# Altium integrated library Analog Devices Data Converters Digital-to-Analog Converters.IntLib: 2231 symbols (part 58 of 181)
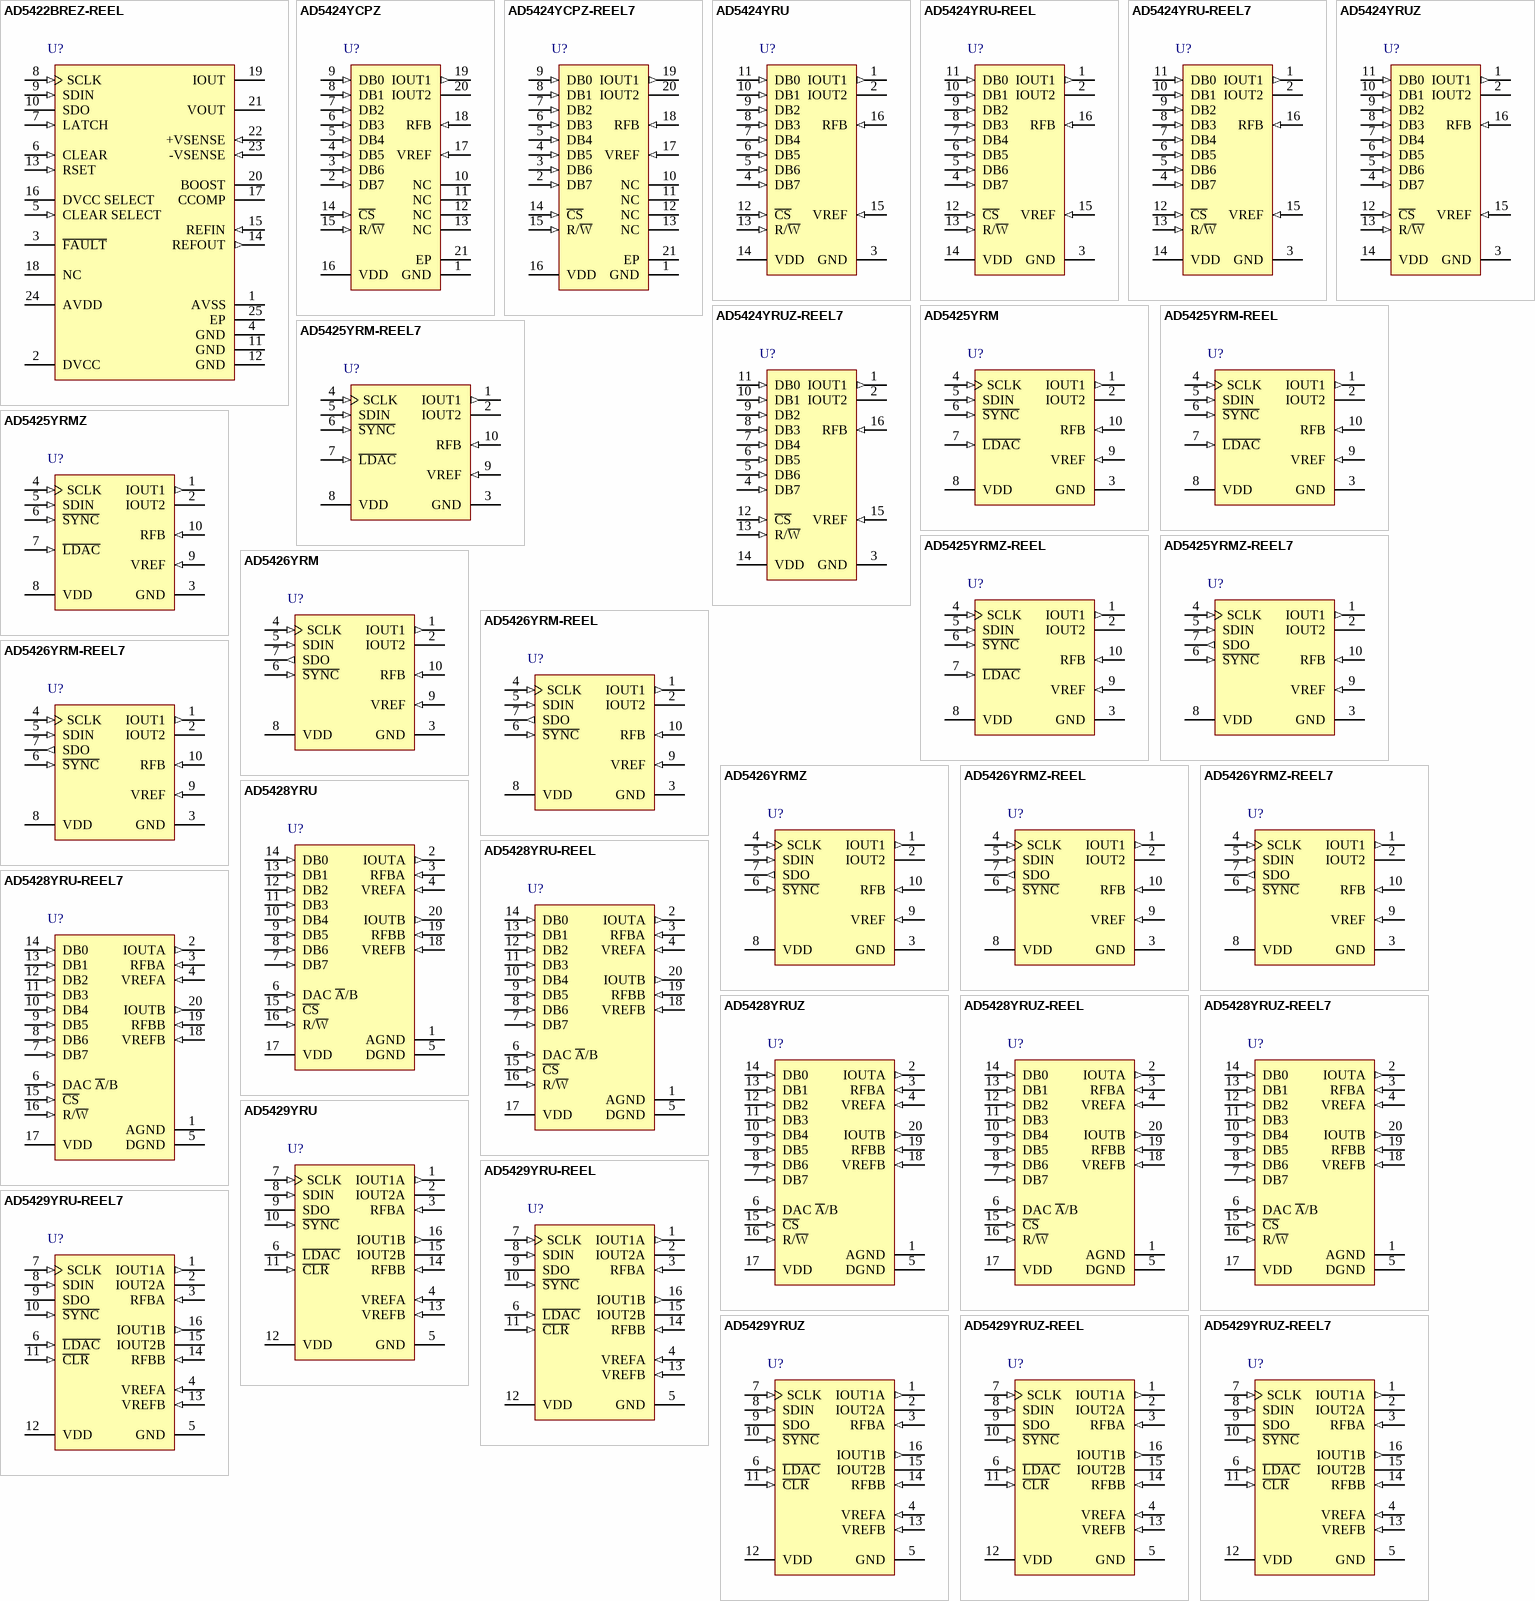
[diagram p171: symbols AD5422BREZ-REEL to AD5429YRUZ-REEL7]

## AD5426YRMZ
designator U?
Single 8-Bit High Bandwidth Multiplying Digital-to-Analog Converter, -40 to +125 degC, RM-10, Pb-Free, Tube; Generic Part Number: AD5426; Manufacturer: Analog Devices; PartNumber: AD5426YRMZ; # DAC Outputs: 1; Max V+: 5.5V; Op Pwr Diss: 25µW; Resolution (Bits): 8; Settling Time: 50ns; Single Supply: Yes; DatasheetVersion: Rev.D; PackageVersion: May-2005; PackageReference: RM-10; PackageDescription: 10-Lead Mini Small Outline Package [MSOP]; Supplier 1: Digi-Key; Supplier Part Number 1: AD5426YRMZ-ND; Supplier 2: Farnell; Supplier Part Number 2: 1581919; Supplier 3: Newark; Supplier Part Number 3: 15P0677; Supplier 4: Newark; Supplier Part Number 4: 59K4118; Supplier 5: Mouser; Supplier Part Number 5: 584-AD5426YRMZ; Packing: Tube; RoHS: Y; Mounting Technology: Surface Mount; ComponentLink1Description: Manufacturer URL; ComponentLink1URL: http://www.analog.com/en/index.html; ComponentLink2Description: Datasheet; ComponentLink2URL: http://www.analog.com/static/imported-files/data_sheets/AD5426_5432_5443.pdf; ComponentLink3Description: Package Specification; ComponentLink3URL: http://www.analog.com/static/imported-files/packages/PKG_PDF/MSOP%28RM%29/RM_10.pdf; ComponentLink4Description: Product URL; ComponentLink4URL: http://www.analog.com/en/digital-to-analog-converters/da-converters/ad5426/products/product.html; ComponentLink5Description: Reference Design URL; ComponentLink5URL: http://www.analog.com/en/digital-to-analog-converters/da-converters/ad5426/products/product.html#prod_cross_sell
footprint RM-10_N (TSSOP, 10-Leads, Body 3x3mm, Pitch 0.5mm, IPC Medium Density)
footprint RM-10_L (TSSOP, 10-Leads, Body 3x3mm, Pitch 0.5mm, IPC High Density)
footprint RM-10_M (TSSOP, 10-Leads, Body 3x3mm, Pitch 0.5mm, IPC Low Density)
pins: 1 IOUT1 (out) "DAC Current Output.", 2 IOUT2 "DAC Analog Ground. This pin should normally be tied to the analog ground of the system.", 3 GND (power) "Digital Ground Pin.", 4 SCLK (in) "Serial Clock Input. By default, data is clocked into the input shift register on the falling edge of the serial clock input. Alternatively, by means of the serial control bits, the device may be configured such that data is (See Datasheet)", 5 SDIN (in) "Serial Data Input. Data is clocked into the 16-bit input register on the active edge of the serial clock input. By default, on power-up, data is clocked into the shift register on the falling edge of SCLK. The control bits (See Datasheet)", 6 ~{SYNC} (in) "Active Low Control Input. This is the frame synchronization signal for the input data. When S\Y\N\C\ goes low, it powers on the SCLK and DIN buffers, and the input shift register is enabled. Data is loaded to the mode, the (See Datasheet)", 7 SDO (out) "Serial Data Output. This allows a number of parts to be daisy-chained. By default, data is clocked into the shift register on the falling edge and out via SDO on the rising edge of SCLK. Data is always clocked out on the (See Datasheet)", 8 VDD (power) "Positive Power Supply Input. These parts can be operated from a supply of 2.5 V to 5.5 V.", 9 VREF (in) "DAC Reference Voltage Input.", 10 RFB (in) "DAC Feedback Resistor Pin. Establishes voltage output for the DAC by connecting to external amplifier output."

## AD5426YRMZ-REEL
designator U?
Single 8-Bit High Bandwidth Multiplying Digital-to-Analog Converter, -40 to +125 degC, RM-10, Pb-Free, Reel; Generic Part Number: AD5426; Manufacturer: Analog Devices; PartNumber: AD5426YRMZ-REEL; # DAC Outputs: 1; Max V+: 5.5V; Op Pwr Diss: 25µW; Resolution (Bits): 8; Settling Time: 50ns; Single Supply: Yes; DatasheetVersion: Rev.D; PackageVersion: May-2005; PackageReference: RM-10; PackageDescription: 10-Lead Mini Small Outline Package [MSOP]; Supplier 1: Digi-Key; Supplier Part Number 1: AD5426YRMZ-REEL-ND; Supplier 2: Newark; Supplier Part Number 2: 59K4119; Supplier 3: Mouser; Supplier Part Number 3: 584-AD5426YRMZ-R; Packing: Reel; RoHS: Y; Mounting Technology: Surface Mount; ComponentLink1Description: Manufacturer URL; ComponentLink1URL: http://www.analog.com/en/index.html; ComponentLink2Description: Datasheet; ComponentLink2URL: http://www.analog.com/static/imported-files/data_sheets/AD5426_5432_5443.pdf; ComponentLink3Description: Package Specification; ComponentLink3URL: http://www.analog.com/static/imported-files/packages/PKG_PDF/MSOP%28RM%29/RM_10.pdf; ComponentLink4Description: Product URL; ComponentLink4URL: http://www.analog.com/en/digital-to-analog-converters/da-converters/ad5426/products/product.html; ComponentLink5Description: Reference Design URL; ComponentLink5URL: http://www.analog.com/en/digital-to-analog-converters/da-converters/ad5426/products/product.html#prod_cross_sell
footprint RM-10_N (TSSOP, 10-Leads, Body 3x3mm, Pitch 0.5mm, IPC Medium Density)
footprint RM-10_L (TSSOP, 10-Leads, Body 3x3mm, Pitch 0.5mm, IPC High Density)
footprint RM-10_M (TSSOP, 10-Leads, Body 3x3mm, Pitch 0.5mm, IPC Low Density)
pins: 1 IOUT1 (out) "DAC Current Output.", 2 IOUT2 "DAC Analog Ground. This pin should normally be tied to the analog ground of the system.", 3 GND (power) "Digital Ground Pin.", 4 SCLK (in) "Serial Clock Input. By default, data is clocked into the input shift register on the falling edge of the serial clock input. Alternatively, by means of the serial control bits, the device may be configured such that data is (See Datasheet)", 5 SDIN (in) "Serial Data Input. Data is clocked into the 16-bit input register on the active edge of the serial clock input. By default, on power-up, data is clocked into the shift register on the falling edge of SCLK. The control bits (See Datasheet)", 6 ~{SYNC} (in) "Active Low Control Input. This is the frame synchronization signal for the input data. When S\Y\N\C\ goes low, it powers on the SCLK and DIN buffers, and the input shift register is enabled. Data is loaded to the mode, the (See Datasheet)", 7 SDO (out) "Serial Data Output. This allows a number of parts to be daisy-chained. By default, data is clocked into the shift register on the falling edge and out via SDO on the rising edge of SCLK. Data is always clocked out on the (See Datasheet)", 8 VDD (power) "Positive Power Supply Input. These parts can be operated from a supply of 2.5 V to 5.5 V.", 9 VREF (in) "DAC Reference Voltage Input.", 10 RFB (in) "DAC Feedback Resistor Pin. Establishes voltage output for the DAC by connecting to external amplifier output."

## AD5426YRMZ-REEL7
designator U?
Single 8-Bit High Bandwidth Multiplying Digital-to-Analog Converter, -40 to +125 degC, RM-10, Pb-Free, Reel; Generic Part Number: AD5426; Manufacturer: Analog Devices; PartNumber: AD5426YRMZ-REEL7; # DAC Outputs: 1; Max V+: 5.5V; Op Pwr Diss: 25µW; Resolution (Bits): 8; Settling Time: 50ns; Single Supply: Yes; DatasheetVersion: Rev.D; PackageVersion: May-2005; PackageReference: RM-10; PackageDescription: 10-Lead Mini Small Outline Package [MSOP]; Supplier 1: Digi-Key; Supplier Part Number 1: AD5426YRMZ-REEL7-ND; Supplier 2: Newark; Supplier Part Number 2: 59K4120; Supplier 3: Mouser; Supplier Part Number 3: 584-AD5426YRMZ-R7; Packing: Reel; RoHS: Y; Mounting Technology: Surface Mount; ComponentLink1Description: Manufacturer URL; ComponentLink1URL: http://www.analog.com/en/index.html; ComponentLink2Description: Datasheet; ComponentLink2URL: http://www.analog.com/static/imported-files/data_sheets/AD5426_5432_5443.pdf; ComponentLink3Description: Package Specification; ComponentLink3URL: http://www.analog.com/static/imported-files/packages/PKG_PDF/MSOP%28RM%29/RM_10.pdf; ComponentLink4Description: Product URL; ComponentLink4URL: http://www.analog.com/en/digital-to-analog-converters/da-converters/ad5426/products/product.html; ComponentLink5Description: Reference Design URL; ComponentLink5URL: http://www.analog.com/en/digital-to-analog-converters/da-converters/ad5426/products/product.html#prod_cross_sell
footprint RM-10_N (TSSOP, 10-Leads, Body 3x3mm, Pitch 0.5mm, IPC Medium Density)
footprint RM-10_L (TSSOP, 10-Leads, Body 3x3mm, Pitch 0.5mm, IPC High Density)
footprint RM-10_M (TSSOP, 10-Leads, Body 3x3mm, Pitch 0.5mm, IPC Low Density)
pins: 1 IOUT1 (out) "DAC Current Output.", 2 IOUT2 "DAC Analog Ground. This pin should normally be tied to the analog ground of the system.", 3 GND (power) "Digital Ground Pin.", 4 SCLK (in) "Serial Clock Input. By default, data is clocked into the input shift register on the falling edge of the serial clock input. Alternatively, by means of the serial control bits, the device may be configured such that data is (See Datasheet)", 5 SDIN (in) "Serial Data Input. Data is clocked into the 16-bit input register on the active edge of the serial clock input. By default, on power-up, data is clocked into the shift register on the falling edge of SCLK. The control bits (See Datasheet)", 6 ~{SYNC} (in) "Active Low Control Input. This is the frame synchronization signal for the input data. When S\Y\N\C\ goes low, it powers on the SCLK and DIN buffers, and the input shift register is enabled. Data is loaded to the mode, the (See Datasheet)", 7 SDO (out) "Serial Data Output. This allows a number of parts to be daisy-chained. By default, data is clocked into the shift register on the falling edge and out via SDO on the rising edge of SCLK. Data is always clocked out on the (See Datasheet)", 8 VDD (power) "Positive Power Supply Input. These parts can be operated from a supply of 2.5 V to 5.5 V.", 9 VREF (in) "DAC Reference Voltage Input.", 10 RFB (in) "DAC Feedback Resistor Pin. Establishes voltage output for the DAC by connecting to external amplifier output."

## AD5428YRU
designator U?
Dual 8-Bit High Bandwidth Multiplying Digital-to-Analog Converter, -40 to +125 degC, RU-20, Tube; Generic Part Number: AD5428; Manufacturer: Analog Devices; PartNumber: AD5428YRU; # DAC Outputs: 2; Max V+: 5.5V; Op Pwr Diss: 3.3µW; Resolution (Bits): 8; Settling Time: 30ns; Single Supply: Yes; DatasheetVersion: Rev.C; PackageVersion: 2000; PackageReference: RU-20; PackageDescription: 20-Lead Thin Shrink Small Outline Package [TSSOP]; Supplier 1: Digi-Key; Supplier Part Number 1: AD5428YRU-ND; Supplier 2: Newark; Supplier Part Number 2: 59K4121; Supplier 3: Mouser; Supplier Part Number 3: 584-AD5428YRU; Packing: Tube; RoHS: N; Mounting Technology: Surface Mount; Code_JEDEC: MO-153AC; ComponentLink1Description: Manufacturer URL; ComponentLink1URL: http://www.analog.com/en/index.html; ComponentLink2Description: Datasheet; ComponentLink2URL: http://www.analog.com/static/imported-files/data_sheets/AD5428_5440_5447.pdf; ComponentLink3Description: Package Specification; ComponentLink3URL: http://www.analog.com/static/imported-files/packages/364515793657813558433715854054607941441RU20.pdf; ComponentLink4Description: Product URL; ComponentLink4URL: http://www.analog.com/en/digital-to-analog-converters/da-converters/ad5428/products/product.html
footprint RU-20_N (TSOP, 20-Leads, Body 6.5x4.4mm, Pitch 0.65mm, IPC Medium Density)
footprint RU-20_L (TSOP, 20-Leads, Body 6.5x4.4mm, Pitch 0.65mm, IPC High Density)
footprint RU-20_M (TSOP, 20-Leads, Body 6.5x4.4mm, Pitch 0.65mm, IPC Low Density)
pins: 1 AGND (power) "DAC Ground Pin. This pin should typically be tied to the analog ground of the system, but can be biased to achieve single-supply operation.", 2 IOUTA (out) "DAC Current Outputs.", 3 RFBA (in) "DAC Feedback Resistor Pins. These pins establish voltage output for the DAC by connecting to an external amplifier output.", 4 VREFA (in) "DAC Reference Voltage Input Terminals.", 5 DGND (power) "Digital Ground Pin.", 6 DAC ~{A}/B (in) "Selects DAC A or DAC B. Low selects DAC A; high selects DAC B.", 7 DB7 (in) "Parallel Data Bit 7.", 8 DB6 (in) "Parallel Data Bit 6.", 9 DB5 (in) "Parallel Data Bit 5.", 10 DB4 (in) "Parallel Data Bit 4.", 11 DB3 (in) "Parallel Data Bit 3.", 12 DB2 (in) "Parallel Data Bit 2.", 13 DB1 (in) "Parallel Data Bit 1.", 14 DB0 (in) "Parallel Data Bit 0.", 15 ~{CS} (in) "Chip Select Input. Active low. Used in conjunction with R/W\ to load parallel data to the input latch or to read data from the DAC register.", 16 R/~{W} (in) "Read/Write. When low, used in conjunction with C\S\ to load parallel data. When high, used in conjunction with C\S\ to read back contents of the DAC register.", 17 VDD (power) "Positive Power Supply Input. This part can be operated from a supply of 2.5 V to 5.5 V.", 18 VREFB (in) "DAC Reference Voltage Input Terminals.", 19 RFBB (in) "DAC Feedback Resistor Pins. These pins establish voltage output for the DAC by connecting to an external amplifier output.", 20 IOUTB (out) "DAC Current Outputs."

## AD5428YRU-REEL
designator U?
Dual 8-Bit High Bandwidth Multiplying Digital-to-Analog Converter,-40 to +125 degC, RU-20, Reel; Generic Part Number: AD5428; Manufacturer: Analog Devices; PartNumber: AD5428YRU-REEL; # DAC Outputs: 2; Max V+: 5.5V; Op Pwr Diss: 3.3µW; Resolution (Bits): 8; Settling Time: 30ns; Single Supply: Yes; DatasheetVersion: Rev.C; PackageVersion: 2000; PackageReference: RU-20; PackageDescription: 20-Lead Thin Shrink Small Outline Package [TSSOP]; Supplier 1: Digi-Key; Supplier Part Number 1: AD5428YRU-REEL-ND; Supplier 2: Mouser; Supplier Part Number 2: 584-AD5428YRU-R; Packing: Reel; RoHS: N; Mounting Technology: Surface Mount; Code_JEDEC: MO-153AC; ComponentLink1Description: Manufacturer URL; ComponentLink1URL: http://www.analog.com/en/index.html; ComponentLink2Description: Datasheet; ComponentLink2URL: http://www.analog.com/static/imported-files/data_sheets/AD5428_5440_5447.pdf; ComponentLink3Description: Package Specification; ComponentLink3URL: http://www.analog.com/static/imported-files/packages/364515793657813558433715854054607941441RU20.pdf; ComponentLink4Description: Product URL; ComponentLink4URL: http://www.analog.com/en/digital-to-analog-converters/da-converters/ad5428/products/product.html
footprint RU-20_N (TSOP, 20-Leads, Body 6.5x4.4mm, Pitch 0.65mm, IPC Medium Density)
footprint RU-20_L (TSOP, 20-Leads, Body 6.5x4.4mm, Pitch 0.65mm, IPC High Density)
footprint RU-20_M (TSOP, 20-Leads, Body 6.5x4.4mm, Pitch 0.65mm, IPC Low Density)
pins: 1 AGND (power) "DAC Ground Pin. This pin should typically be tied to the analog ground of the system, but can be biased to achieve single-supply operation.", 2 IOUTA (out) "DAC Current Outputs.", 3 RFBA (in) "DAC Feedback Resistor Pins. These pins establish voltage output for the DAC by connecting to an external amplifier output.", 4 VREFA (in) "DAC Reference Voltage Input Terminals.", 5 DGND (power) "Digital Ground Pin.", 6 DAC ~{A}/B (in) "Selects DAC A or DAC B. Low selects DAC A; high selects DAC B.", 7 DB7 (in) "Parallel Data Bit 7.", 8 DB6 (in) "Parallel Data Bit 6.", 9 DB5 (in) "Parallel Data Bit 5.", 10 DB4 (in) "Parallel Data Bit 4.", 11 DB3 (in) "Parallel Data Bit 3.", 12 DB2 (in) "Parallel Data Bit 2.", 13 DB1 (in) "Parallel Data Bit 1.", 14 DB0 (in) "Parallel Data Bit 0.", 15 ~{CS} (in) "Chip Select Input. Active low. Used in conjunction with R/W\ to load parallel data to the input latch or to read data from the DAC register.", 16 R/~{W} (in) "Read/Write. When low, used in conjunction with C\S\ to load parallel data. When high, used in conjunction with C\S\ to read back contents of the DAC register.", 17 VDD (power) "Positive Power Supply Input. This part can be operated from a supply of 2.5 V to 5.5 V.", 18 VREFB (in) "DAC Reference Voltage Input Terminals.", 19 RFBB (in) "DAC Feedback Resistor Pins. These pins establish voltage output for the DAC by connecting to an external amplifier output.", 20 IOUTB (out) "DAC Current Outputs."

## AD5428YRU-REEL7
designator U?
Dual 8-Bit High Bandwidth Multiplying Digital-to-Analog Converter, -40 to +125 degC, RU-20, Reel; Generic Part Number: AD5428; Manufacturer: Analog Devices; PartNumber: AD5428YRU-REEL7; # DAC Outputs: 2; Max V+: 5.5V; Op Pwr Diss: 3.3µW; Resolution (Bits): 8; Settling Time: 30ns; Single Supply: Yes; DatasheetVersion: Rev.C; PackageVersion: 2000; PackageReference: RU-20; PackageDescription: 20-Lead Thin Shrink Small Outline Package [TSSOP]; Supplier 1: Digi-Key; Supplier Part Number 1: AD5428YRU-REEL7-ND; Supplier 2: Mouser; Supplier Part Number 2: 584-AD5428YRU-R7; Packing: Reel; RoHS: N; Mounting Technology: Surface Mount; Code_JEDEC: MO-153AC; ComponentLink1Description: Manufacturer URL; ComponentLink1URL: http://www.analog.com/en/index.html; ComponentLink2Description: Datasheet; ComponentLink2URL: http://www.analog.com/static/imported-files/data_sheets/AD5428_5440_5447.pdf; ComponentLink3Description: Package Specification; ComponentLink3URL: http://www.analog.com/static/imported-files/packages/364515793657813558433715854054607941441RU20.pdf; ComponentLink4Description: Product URL; ComponentLink4URL: http://www.analog.com/en/digital-to-analog-converters/da-converters/ad5428/products/product.html
footprint RU-20_N (TSOP, 20-Leads, Body 6.5x4.4mm, Pitch 0.65mm, IPC Medium Density)
footprint RU-20_L (TSOP, 20-Leads, Body 6.5x4.4mm, Pitch 0.65mm, IPC High Density)
footprint RU-20_M (TSOP, 20-Leads, Body 6.5x4.4mm, Pitch 0.65mm, IPC Low Density)
pins: 1 AGND (power) "DAC Ground Pin. This pin should typically be tied to the analog ground of the system, but can be biased to achieve single-supply operation.", 2 IOUTA (out) "DAC Current Outputs.", 3 RFBA (in) "DAC Feedback Resistor Pins. These pins establish voltage output for the DAC by connecting to an external amplifier output.", 4 VREFA (in) "DAC Reference Voltage Input Terminals.", 5 DGND (power) "Digital Ground Pin.", 6 DAC ~{A}/B (in) "Selects DAC A or DAC B. Low selects DAC A; high selects DAC B.", 7 DB7 (in) "Parallel Data Bit 7.", 8 DB6 (in) "Parallel Data Bit 6.", 9 DB5 (in) "Parallel Data Bit 5.", 10 DB4 (in) "Parallel Data Bit 4.", 11 DB3 (in) "Parallel Data Bit 3.", 12 DB2 (in) "Parallel Data Bit 2.", 13 DB1 (in) "Parallel Data Bit 1.", 14 DB0 (in) "Parallel Data Bit 0.", 15 ~{CS} (in) "Chip Select Input. Active low. Used in conjunction with R/W\ to load parallel data to the input latch or to read data from the DAC register.", 16 R/~{W} (in) "Read/Write. When low, used in conjunction with C\S\ to load parallel data. When high, used in conjunction with C\S\ to read back contents of the DAC register.", 17 VDD (power) "Positive Power Supply Input. This part can be operated from a supply of 2.5 V to 5.5 V.", 18 VREFB (in) "DAC Reference Voltage Input Terminals.", 19 RFBB (in) "DAC Feedback Resistor Pins. These pins establish voltage output for the DAC by connecting to an external amplifier output.", 20 IOUTB (out) "DAC Current Outputs."

## AD5428YRUZ
designator U?
Dual 8-Bit High Bandwidth Multiplying Digital-to-Analog Converter, -40 to +125 degC, RU-20, Pb-Free, Tube; Generic Part Number: AD5428; Manufacturer: Analog Devices; PartNumber: AD5428YRUZ; # DAC Outputs: 2; Max V+: 5.5V; Op Pwr Diss: 3.3µW; Resolution (Bits): 8; Settling Time: 30ns; Single Supply: Yes; DatasheetVersion: Rev.C; PackageVersion: 2000; PackageReference: RU-20; PackageDescription: 20-Lead Thin Shrink Small Outline Package [TSSOP]; Supplier 1: Digi-Key; Supplier Part Number 1: AD5428YRUZ-ND; Supplier 2: Farnell; Supplier Part Number 2: 1438902; Supplier 3: Newark; Supplier Part Number 3: 12M8525; Supplier 4: Mouser; Supplier Part Number 4: 584-AD5428YRUZ; Packing: Tube; RoHS: Y; Mounting Technology: Surface Mount; Code_JEDEC: MO-153AC; ComponentLink1Description: Manufacturer URL; ComponentLink1URL: http://www.analog.com/en/index.html; ComponentLink2Description: Datasheet; ComponentLink2URL: http://www.analog.com/static/imported-files/data_sheets/AD5428_5440_5447.pdf; ComponentLink3Description: Package Specification; ComponentLink3URL: http://www.analog.com/static/imported-files/packages/364515793657813558433715854054607941441RU20.pdf; ComponentLink4Description: Product URL; ComponentLink4URL: http://www.analog.com/en/digital-to-analog-converters/da-converters/ad5428/products/product.html
footprint RU-20_N (TSOP, 20-Leads, Body 6.5x4.4mm, Pitch 0.65mm, IPC Medium Density)
footprint RU-20_L (TSOP, 20-Leads, Body 6.5x4.4mm, Pitch 0.65mm, IPC High Density)
footprint RU-20_M (TSOP, 20-Leads, Body 6.5x4.4mm, Pitch 0.65mm, IPC Low Density)
pins: 1 AGND (power) "DAC Ground Pin. This pin should typically be tied to the analog ground of the system, but can be biased to achieve single-supply operation.", 2 IOUTA (out) "DAC Current Outputs.", 3 RFBA (in) "DAC Feedback Resistor Pins. These pins establish voltage output for the DAC by connecting to an external amplifier output.", 4 VREFA (in) "DAC Reference Voltage Input Terminals.", 5 DGND (power) "Digital Ground Pin.", 6 DAC ~{A}/B (in) "Selects DAC A or DAC B. Low selects DAC A; high selects DAC B.", 7 DB7 (in) "Parallel Data Bit 7.", 8 DB6 (in) "Parallel Data Bit 6.", 9 DB5 (in) "Parallel Data Bit 5.", 10 DB4 (in) "Parallel Data Bit 4.", 11 DB3 (in) "Parallel Data Bit 3.", 12 DB2 (in) "Parallel Data Bit 2.", 13 DB1 (in) "Parallel Data Bit 1.", 14 DB0 (in) "Parallel Data Bit 0.", 15 ~{CS} (in) "Chip Select Input. Active low. Used in conjunction with R/W\ to load parallel data to the input latch or to read data from the DAC register.", 16 R/~{W} (in) "Read/Write. When low, used in conjunction with C\S\ to load parallel data. When high, used in conjunction with C\S\ to read back contents of the DAC register.", 17 VDD (power) "Positive Power Supply Input. This part can be operated from a supply of 2.5 V to 5.5 V.", 18 VREFB (in) "DAC Reference Voltage Input Terminals.", 19 RFBB (in) "DAC Feedback Resistor Pins. These pins establish voltage output for the DAC by connecting to an external amplifier output.", 20 IOUTB (out) "DAC Current Outputs."

## AD5428YRUZ-REEL
designator U?
Dual 8-Bit High Bandwidth Multiplying Digital-to-Analog Converter, -40 to +125 degC, RU-20, Pb-Free, Reel; Generic Part Number: AD5428; Manufacturer: Analog Devices; PartNumber: AD5428YRUZ-REEL; # DAC Outputs: 2; Max V+: 5.5V; Op Pwr Diss: 3.3µW; Resolution (Bits): 8; Settling Time: 30ns; Single Supply: Yes; DatasheetVersion: Rev.C; PackageVersion: 2000; PackageReference: RU-20; PackageDescription: 20-Lead Thin Shrink Small Outline Package [TSSOP]; Supplier 1: Digi-Key; Supplier Part Number 1: AD5428YRUZ-REEL-ND; Supplier 2: Newark; Supplier Part Number 2: 12M8526; Supplier 3: Mouser; Supplier Part Number 3: 584-AD5428YRUZ-R; Packing: Reel; RoHS: Y; Mounting Technology: Surface Mount; Code_JEDEC: MO-153AC; ComponentLink1Description: Manufacturer URL; ComponentLink1URL: http://www.analog.com/en/index.html; ComponentLink2Description: Datasheet; ComponentLink2URL: http://www.analog.com/static/imported-files/data_sheets/AD5428_5440_5447.pdf; ComponentLink3Description: Package Specification; ComponentLink3URL: http://www.analog.com/static/imported-files/packages/364515793657813558433715854054607941441RU20.pdf; ComponentLink4Description: Product URL; ComponentLink4URL: http://www.analog.com/en/digital-to-analog-converters/da-converters/ad5428/products/product.html
footprint RU-20_N (TSOP, 20-Leads, Body 6.5x4.4mm, Pitch 0.65mm, IPC Medium Density)
footprint RU-20_L (TSOP, 20-Leads, Body 6.5x4.4mm, Pitch 0.65mm, IPC High Density)
footprint RU-20_M (TSOP, 20-Leads, Body 6.5x4.4mm, Pitch 0.65mm, IPC Low Density)
pins: 1 AGND (power) "DAC Ground Pin. This pin should typically be tied to the analog ground of the system, but can be biased to achieve single-supply operation.", 2 IOUTA (out) "DAC Current Outputs.", 3 RFBA (in) "DAC Feedback Resistor Pins. These pins establish voltage output for the DAC by connecting to an external amplifier output.", 4 VREFA (in) "DAC Reference Voltage Input Terminals.", 5 DGND (power) "Digital Ground Pin.", 6 DAC ~{A}/B (in) "Selects DAC A or DAC B. Low selects DAC A; high selects DAC B.", 7 DB7 (in) "Parallel Data Bit 7.", 8 DB6 (in) "Parallel Data Bit 6.", 9 DB5 (in) "Parallel Data Bit 5.", 10 DB4 (in) "Parallel Data Bit 4.", 11 DB3 (in) "Parallel Data Bit 3.", 12 DB2 (in) "Parallel Data Bit 2.", 13 DB1 (in) "Parallel Data Bit 1.", 14 DB0 (in) "Parallel Data Bit 0.", 15 ~{CS} (in) "Chip Select Input. Active low. Used in conjunction with R/W\ to load parallel data to the input latch or to read data from the DAC register.", 16 R/~{W} (in) "Read/Write. When low, used in conjunction with C\S\ to load parallel data. When high, used in conjunction with C\S\ to read back contents of the DAC register.", 17 VDD (power) "Positive Power Supply Input. This part can be operated from a supply of 2.5 V to 5.5 V.", 18 VREFB (in) "DAC Reference Voltage Input Terminals.", 19 RFBB (in) "DAC Feedback Resistor Pins. These pins establish voltage output for the DAC by connecting to an external amplifier output.", 20 IOUTB (out) "DAC Current Outputs."

## AD5428YRUZ-REEL7
designator U?
Dual 8-Bit High Bandwidth Multiplying Digital-to-Analog Converter, -40 to +125 degC, RU-20, Pb-Free, Reel; Generic Part Number: AD5428; Manufacturer: Analog Devices; PartNumber: AD5428YRUZ-REEL7; # DAC Outputs: 2; Max V+: 5.5V; Op Pwr Diss: 3.3µW; Resolution (Bits): 8; Settling Time: 30ns; Single Supply: Yes; DatasheetVersion: Rev.C; PackageVersion: 2000; PackageReference: RU-20; PackageDescription: 20-Lead Thin Shrink Small Outline Package [TSSOP]; Supplier 1: Digi-Key; Supplier Part Number 1: AD5428YRUZ-REEL7-ND; Supplier 2: Mouser; Supplier Part Number 2: 584-AD5428YRUZ-R7; Packing: Reel; RoHS: Y; Mounting Technology: Surface Mount; Code_JEDEC: MO-153AC; ComponentLink1Description: Manufacturer URL; ComponentLink1URL: http://www.analog.com/en/index.html; ComponentLink2Description: Datasheet; ComponentLink2URL: http://www.analog.com/static/imported-files/data_sheets/AD5428_5440_5447.pdf; ComponentLink3Description: Package Specification; ComponentLink3URL: http://www.analog.com/static/imported-files/packages/364515793657813558433715854054607941441RU20.pdf; ComponentLink4Description: Product URL; ComponentLink4URL: http://www.analog.com/en/digital-to-analog-converters/da-converters/ad5428/products/product.html
footprint RU-20_N (TSOP, 20-Leads, Body 6.5x4.4mm, Pitch 0.65mm, IPC Medium Density)
footprint RU-20_L (TSOP, 20-Leads, Body 6.5x4.4mm, Pitch 0.65mm, IPC High Density)
footprint RU-20_M (TSOP, 20-Leads, Body 6.5x4.4mm, Pitch 0.65mm, IPC Low Density)
pins: 1 AGND (power) "DAC Ground Pin. This pin should typically be tied to the analog ground of the system, but can be biased to achieve single-supply operation.", 2 IOUTA (out) "DAC Current Outputs.", 3 RFBA (in) "DAC Feedback Resistor Pins. These pins establish voltage output for the DAC by connecting to an external amplifier output.", 4 VREFA (in) "DAC Reference Voltage Input Terminals.", 5 DGND (power) "Digital Ground Pin.", 6 DAC ~{A}/B (in) "Selects DAC A or DAC B. Low selects DAC A; high selects DAC B.", 7 DB7 (in) "Parallel Data Bit 7.", 8 DB6 (in) "Parallel Data Bit 6.", 9 DB5 (in) "Parallel Data Bit 5.", 10 DB4 (in) "Parallel Data Bit 4.", 11 DB3 (in) "Parallel Data Bit 3.", 12 DB2 (in) "Parallel Data Bit 2.", 13 DB1 (in) "Parallel Data Bit 1.", 14 DB0 (in) "Parallel Data Bit 0.", 15 ~{CS} (in) "Chip Select Input. Active low. Used in conjunction with R/W\ to load parallel data to the input latch or to read data from the DAC register.", 16 R/~{W} (in) "Read/Write. When low, used in conjunction with C\S\ to load parallel data. When high, used in conjunction with C\S\ to read back contents of the DAC register.", 17 VDD (power) "Positive Power Supply Input. This part can be operated from a supply of 2.5 V to 5.5 V.", 18 VREFB (in) "DAC Reference Voltage Input Terminals.", 19 RFBB (in) "DAC Feedback Resistor Pins. These pins establish voltage output for the DAC by connecting to an external amplifier output.", 20 IOUTB (out) "DAC Current Outputs."

## AD5429YRU
designator U?
Dual 8-Bit High Bandwidth Multiplying Digital-to-Analog Converter, -40 to +125 degC, RU-16, Tube; Generic Part Number: AD5429; Manufacturer: Analog Devices; PartNumber: AD5429YRU; # DAC Outputs: 2; Max V+: 5.5V; Op Pwr Diss: 3.5µW; Resolution (Bits): 8; Settling Time: 30ns; Single Supply: Yes; DatasheetVersion: Rev.D; PackageVersion: Nov-2002; PackageReference: RU-16; PackageDescription: 16-Lead Thin Shrink Small Outline Package [TSSOP]; Supplier 1: Digi-Key; Supplier Part Number 1: AD5429YRU-ND; Supplier 2: Mouser; Supplier Part Number 2: 584-AD5429YRU; Packing: Tube; RoHS: N; Mounting Technology: Surface Mount; Code_JEDEC: MO-153-AB; ComponentLink1Description: Manufacturer URL; ComponentLink1URL: http://www.analog.com/en/index.html; ComponentLink2Description: Datasheet; ComponentLink2URL: http://www.analog.com/static/imported-files/data_sheets/AD5429_5439_5449.pdf; ComponentLink3Description: Package Specification; ComponentLink3URL: http://www.analog.com/static/imported-files/packages/36244347913743854010197452789RU16.pdf; ComponentLink4Description: Product URL; ComponentLink4URL: http://www.analog.com/en/digital-to-analog-converters/da-converters/ad5429/products/product.html
footprint RU-16_N (TSOP, 16-Leads, Body 5x4.4mm, Pitch 0.65mm, IPC Medium Density)
footprint RU-16_L (TSOP, 16-Leads, Body 5x4.4mm, Pitch 0.65mm, IPC High Density)
footprint RU-16_M (TSOP, 16-Leads, Body 5x4.4mm, Pitch 0.65mm, IPC Low Density)
pins: 1 IOUT1A (out) "DAC A Current Output.", 2 IOUT2A "DAC A Analog Ground. This pin should typically be tied to the analog ground of the system, but it can be biased to achieve single-supply operation.", 3 RFBA (in) "DAC Feedback Resistor Pin. This pin establishes voltage output for the DAC by connecting to an external amplifier output.", 4 VREFA (in) "DAC A Reference Voltage Input Pin.", 5 GND (power) "Ground Pin.", 6 ~{LDAC} (in) "Load DAC Input. This pin allows asynchronous or synchronous updates to the DAC output. The DAC is asynchronously updated when this signal goes low. Alternatively, if this line is held permanently low, an automatic or (See Datasheet)", 7 SCLK (in) "Serial Clock Input. By default, data is clocked into the input shift register on the falling edge of the serial clock input. Alternatively, by means of the serial control bits, the device can be configured such that data is (See Datasheet)", 8 SDIN (in) "Serial Data Input. Data is clocked into the 16-bit input register on the active edge of the serial clock input. By default, data is clocked at power-on into the shift register on the falling edge of SCLK. The control bits (See Datasheet)", 9 SDO (oc) "Serial Data Output. This pin allows a number of parts to be daisy-chained. By default, data is clocked into the shift register on the falling edge and clocked out via SDO on the rising edge of SCLK. Data is always clocked (See Datasheet)", 10 ~{SYNC} (in) "Active Low Control Input. This pin provides the frame synchronization signal for the input data. When S\Y\N\C\ goes low, it powers on the SCLK and DIN buffers, and the input shift register is enabled. Data is loaded into the (See Datasheet)", 11 ~{CLR} (in) "Active Low Control Input. This pin clears the DAC output, input, and DAC registers. Configuration mode allows the user to enable the hardware C\L\R\ pin as a clear-to-zero scale or midscale, as required.", 12 VDD (power) "Positive Power Supply Input. These parts can be operated from a supply of 2.5 V to 5.5 V.", 13 VREFB (in) "DAC B Reference Voltage Input Pin.", 14 RFBB (in) "DAC B Feedback Resistor Pin. This pin establishes voltage output for the DAC by connecting to an external amplifier output.", 15 IOUT2B "DAC B Analog Ground. This pin typically should be tied to the analog ground of the system, but it can be biased to achieve single-supply operation.", 16 IOUT1B (out) "DAC B Current Output."

## AD5429YRU-REEL
designator U?
Dual 8-Bit High Bandwidth Multiplying Digital-to-Analog Converter, -40 to +125 degC, RU-16, Reel; Generic Part Number: AD5429; Manufacturer: Analog Devices; PartNumber: AD5429YRU-REEL; # DAC Outputs: 2; Max V+: 5.5V; Op Pwr Diss: 3.5µW; Resolution (Bits): 8; Settling Time: 30ns; Single Supply: Yes; DatasheetVersion: Rev.D; PackageVersion: Nov-2002; PackageReference: RU-16; PackageDescription: 16-Lead Thin Shrink Small Outline Package [TSSOP]; Supplier 1: Digi-Key; Supplier Part Number 1: AD5429YRU-REEL-ND; Supplier 2: Mouser; Supplier Part Number 2: 584-AD5429YRU-R; Packing: Reel; RoHS: N; Mounting Technology: Surface Mount; Code_JEDEC: MO-153-AB; ComponentLink1Description: Manufacturer URL; ComponentLink1URL: http://www.analog.com/en/index.html; ComponentLink2Description: Datasheet; ComponentLink2URL: http://www.analog.com/static/imported-files/data_sheets/AD5429_5439_5449.pdf; ComponentLink3Description: Package Specification; ComponentLink3URL: http://www.analog.com/static/imported-files/packages/36244347913743854010197452789RU16.pdf; ComponentLink4Description: Product URL; ComponentLink4URL: http://www.analog.com/en/digital-to-analog-converters/da-converters/ad5429/products/product.html
footprint RU-16_N (TSOP, 16-Leads, Body 5x4.4mm, Pitch 0.65mm, IPC Medium Density)
footprint RU-16_L (TSOP, 16-Leads, Body 5x4.4mm, Pitch 0.65mm, IPC High Density)
footprint RU-16_M (TSOP, 16-Leads, Body 5x4.4mm, Pitch 0.65mm, IPC Low Density)
pins: 1 IOUT1A (out) "DAC A Current Output.", 2 IOUT2A "DAC A Analog Ground. This pin should typically be tied to the analog ground of the system, but it can be biased to achieve single-supply operation.", 3 RFBA (in) "DAC Feedback Resistor Pin. This pin establishes voltage output for the DAC by connecting to an external amplifier output.", 4 VREFA (in) "DAC A Reference Voltage Input Pin.", 5 GND (power) "Ground Pin.", 6 ~{LDAC} (in) "Load DAC Input. This pin allows asynchronous or synchronous updates to the DAC output. The DAC is asynchronously updated when this signal goes low. Alternatively, if this line is held permanently low, an automatic or (See Datasheet)", 7 SCLK (in) "Serial Clock Input. By default, data is clocked into the input shift register on the falling edge of the serial clock input. Alternatively, by means of the serial control bits, the device can be configured such that data is (See Datasheet)", 8 SDIN (in) "Serial Data Input. Data is clocked into the 16-bit input register on the active edge of the serial clock input. By default, data is clocked at power-on into the shift register on the falling edge of SCLK. The control bits (See Datasheet)", 9 SDO (oc) "Serial Data Output. This pin allows a number of parts to be daisy-chained. By default, data is clocked into the shift register on the falling edge and clocked out via SDO on the rising edge of SCLK. Data is always clocked (See Datasheet)", 10 ~{SYNC} (in) "Active Low Control Input. This pin provides the frame synchronization signal for the input data. When S\Y\N\C\ goes low, it powers on the SCLK and DIN buffers, and the input shift register is enabled. Data is loaded into the (See Datasheet)", 11 ~{CLR} (in) "Active Low Control Input. This pin clears the DAC output, input, and DAC registers. Configuration mode allows the user to enable the hardware C\L\R\ pin as a clear-to-zero scale or midscale, as required.", 12 VDD (power) "Positive Power Supply Input. These parts can be operated from a supply of 2.5 V to 5.5 V.", 13 VREFB (in) "DAC B Reference Voltage Input Pin.", 14 RFBB (in) "DAC B Feedback Resistor Pin. This pin establishes voltage output for the DAC by connecting to an external amplifier output.", 15 IOUT2B "DAC B Analog Ground. This pin typically should be tied to the analog ground of the system, but it can be biased to achieve single-supply operation.", 16 IOUT1B (out) "DAC B Current Output."

## AD5429YRU-REEL7
designator U?
Dual 8-Bit High Bandwidth Multiplying Digital-to-Analog Converter, -40 to +125 degC, RU-16, Reel; Generic Part Number: AD5429; Manufacturer: Analog Devices; PartNumber: AD5429YRU-REEL7; # DAC Outputs: 2; Max V+: 5.5V; Op Pwr Diss: 3.5µW; Resolution (Bits): 8; Settling Time: 30ns; Single Supply: Yes; DatasheetVersion: Rev.D; PackageVersion: Nov-2002; PackageReference: RU-16; PackageDescription: 16-Lead Thin Shrink Small Outline Package [TSSOP]; Supplier 1: Mouser; Supplier Part Number 1: N/A; Packing: Reel; RoHS: N; Mounting Technology: Surface Mount; Code_JEDEC: MO-153-AB; ComponentLink1Description: Manufacturer URL; ComponentLink1URL: http://www.analog.com/en/index.html; ComponentLink2Description: Datasheet; ComponentLink2URL: http://www.analog.com/static/imported-files/data_sheets/AD5429_5439_5449.pdf; ComponentLink3Description: Package Specification; ComponentLink3URL: http://www.analog.com/static/imported-files/packages/36244347913743854010197452789RU16.pdf; ComponentLink4Description: Product URL; ComponentLink4URL: http://www.analog.com/en/digital-to-analog-converters/da-converters/ad5429/products/product.html
footprint RU-16_N (TSOP, 16-Leads, Body 5x4.4mm, Pitch 0.65mm, IPC Medium Density)
footprint RU-16_L (TSOP, 16-Leads, Body 5x4.4mm, Pitch 0.65mm, IPC High Density)
footprint RU-16_M (TSOP, 16-Leads, Body 5x4.4mm, Pitch 0.65mm, IPC Low Density)
pins: 1 IOUT1A (out) "DAC A Current Output.", 2 IOUT2A "DAC A Analog Ground. This pin should typically be tied to the analog ground of the system, but it can be biased to achieve single-supply operation.", 3 RFBA (in) "DAC Feedback Resistor Pin. This pin establishes voltage output for the DAC by connecting to an external amplifier output.", 4 VREFA (in) "DAC A Reference Voltage Input Pin.", 5 GND (power) "Ground Pin.", 6 ~{LDAC} (in) "Load DAC Input. This pin allows asynchronous or synchronous updates to the DAC output. The DAC is asynchronously updated when this signal goes low. Alternatively, if this line is held permanently low, an automatic or (See Datasheet)", 7 SCLK (in) "Serial Clock Input. By default, data is clocked into the input shift register on the falling edge of the serial clock input. Alternatively, by means of the serial control bits, the device can be configured such that data is (See Datasheet)", 8 SDIN (in) "Serial Data Input. Data is clocked into the 16-bit input register on the active edge of the serial clock input. By default, data is clocked at power-on into the shift register on the falling edge of SCLK. The control bits (See Datasheet)", 9 SDO (oc) "Serial Data Output. This pin allows a number of parts to be daisy-chained. By default, data is clocked into the shift register on the falling edge and clocked out via SDO on the rising edge of SCLK. Data is always clocked (See Datasheet)", 10 ~{SYNC} (in) "Active Low Control Input. This pin provides the frame synchronization signal for the input data. When S\Y\N\C\ goes low, it powers on the SCLK and DIN buffers, and the input shift register is enabled. Data is loaded into the (See Datasheet)", 11 ~{CLR} (in) "Active Low Control Input. This pin clears the DAC output, input, and DAC registers. Configuration mode allows the user to enable the hardware C\L\R\ pin as a clear-to-zero scale or midscale, as required.", 12 VDD (power) "Positive Power Supply Input. These parts can be operated from a supply of 2.5 V to 5.5 V.", 13 VREFB (in) "DAC B Reference Voltage Input Pin.", 14 RFBB (in) "DAC B Feedback Resistor Pin. This pin establishes voltage output for the DAC by connecting to an external amplifier output.", 15 IOUT2B "DAC B Analog Ground. This pin typically should be tied to the analog ground of the system, but it can be biased to achieve single-supply operation.", 16 IOUT1B (out) "DAC B Current Output."

## AD5429YRUZ
designator U?
Dual 8-Bit High Bandwidth Multiplying Digital-to-Analog Converter, -40 to +125 degC, RU-16, Pb-Free, Tube; Generic Part Number: AD5429; Manufacturer: Analog Devices; PartNumber: AD5429YRUZ; # DAC Outputs: 2; Max V+: 5.5V; Op Pwr Diss: 3.5µW; Resolution (Bits): 8; Settling Time: 30ns; Single Supply: Yes; DatasheetVersion: Rev.D; PackageVersion: Nov-2002; PackageReference: RU-16; PackageDescription: 16-Lead Thin Shrink Small Outline Package [TSSOP]; Supplier 1: Digi-Key; Supplier Part Number 1: AD5429YRUZ-ND; Supplier 2: Farnell; Supplier Part Number 2: 1438903; Supplier 3: Newark; Supplier Part Number 3: 15P0679; Supplier 4: Newark; Supplier Part Number 4: 59K4127; Supplier 5: Mouser; Supplier Part Number 5: 584-AD5429YRUZ; Packing: Tube; RoHS: Y; Mounting Technology: Surface Mount; Code_JEDEC: MO-153-AB; ComponentLink1Description: Manufacturer URL; ComponentLink1URL: http://www.analog.com/en/index.html; ComponentLink2Description: Datasheet; ComponentLink2URL: http://www.analog.com/static/imported-files/data_sheets/AD5429_5439_5449.pdf; ComponentLink3Description: Package Specification; ComponentLink3URL: http://www.analog.com/static/imported-files/packages/36244347913743854010197452789RU16.pdf; ComponentLink4Description: Product URL; ComponentLink4URL: http://www.analog.com/en/digital-to-analog-converters/da-converters/ad5429/products/product.html
footprint RU-16_N (TSOP, 16-Leads, Body 5x4.4mm, Pitch 0.65mm, IPC Medium Density)
footprint RU-16_L (TSOP, 16-Leads, Body 5x4.4mm, Pitch 0.65mm, IPC High Density)
footprint RU-16_M (TSOP, 16-Leads, Body 5x4.4mm, Pitch 0.65mm, IPC Low Density)
pins: 1 IOUT1A (out) "DAC A Current Output.", 2 IOUT2A "DAC A Analog Ground. This pin should typically be tied to the analog ground of the system, but it can be biased to achieve single-supply operation.", 3 RFBA (in) "DAC Feedback Resistor Pin. This pin establishes voltage output for the DAC by connecting to an external amplifier output.", 4 VREFA (in) "DAC A Reference Voltage Input Pin.", 5 GND (power) "Ground Pin.", 6 ~{LDAC} (in) "Load DAC Input. This pin allows asynchronous or synchronous updates to the DAC output. The DAC is asynchronously updated when this signal goes low. Alternatively, if this line is held permanently low, an automatic or (See Datasheet)", 7 SCLK (in) "Serial Clock Input. By default, data is clocked into the input shift register on the falling edge of the serial clock input. Alternatively, by means of the serial control bits, the device can be configured such that data is (See Datasheet)", 8 SDIN (in) "Serial Data Input. Data is clocked into the 16-bit input register on the active edge of the serial clock input. By default, data is clocked at power-on into the shift register on the falling edge of SCLK. The control bits (See Datasheet)", 9 SDO (oc) "Serial Data Output. This pin allows a number of parts to be daisy-chained. By default, data is clocked into the shift register on the falling edge and clocked out via SDO on the rising edge of SCLK. Data is always clocked (See Datasheet)", 10 ~{SYNC} (in) "Active Low Control Input. This pin provides the frame synchronization signal for the input data. When S\Y\N\C\ goes low, it powers on the SCLK and DIN buffers, and the input shift register is enabled. Data is loaded into the (See Datasheet)", 11 ~{CLR} (in) "Active Low Control Input. This pin clears the DAC output, input, and DAC registers. Configuration mode allows the user to enable the hardware C\L\R\ pin as a clear-to-zero scale or midscale, as required.", 12 VDD (power) "Positive Power Supply Input. These parts can be operated from a supply of 2.5 V to 5.5 V.", 13 VREFB (in) "DAC B Reference Voltage Input Pin.", 14 RFBB (in) "DAC B Feedback Resistor Pin. This pin establishes voltage output for the DAC by connecting to an external amplifier output.", 15 IOUT2B "DAC B Analog Ground. This pin typically should be tied to the analog ground of the system, but it can be biased to achieve single-supply operation.", 16 IOUT1B (out) "DAC B Current Output."

## AD5429YRUZ-REEL
designator U?
Dual 8-Bit High Bandwidth Multiplying Digital-to-Analog Converter, -40 to +125 degC, RU-16, Pb-Free, Reel; Generic Part Number: AD5429; Manufacturer: Analog Devices; PartNumber: AD5429YRUZ-REEL; # DAC Outputs: 2; Max V+: 5.5V; Op Pwr Diss: 3.5µW; Resolution (Bits): 8; Settling Time: 30ns; Single Supply: Yes; DatasheetVersion: Rev.D; PackageVersion: Nov-2002; PackageReference: RU-16; PackageDescription: 16-Lead Thin Shrink Small Outline Package [TSSOP]; Supplier 1: Digi-Key; Supplier Part Number 1: AD5429YRUZ-REEL-ND; Supplier 2: Mouser; Supplier Part Number 2: 584-AD5429YRUZ-R; Packing: Reel; RoHS: Y; Mounting Technology: Surface Mount; Code_JEDEC: MO-153-AB; ComponentLink1Description: Manufacturer URL; ComponentLink1URL: http://www.analog.com/en/index.html; ComponentLink2Description: Datasheet; ComponentLink2URL: http://www.analog.com/static/imported-files/data_sheets/AD5429_5439_5449.pdf; ComponentLink3Description: Package Specification; ComponentLink3URL: http://www.analog.com/static/imported-files/packages/36244347913743854010197452789RU16.pdf; ComponentLink4Description: Product URL; ComponentLink4URL: http://www.analog.com/en/digital-to-analog-converters/da-converters/ad5429/products/product.html
footprint RU-16_N (TSOP, 16-Leads, Body 5x4.4mm, Pitch 0.65mm, IPC Medium Density)
footprint RU-16_L (TSOP, 16-Leads, Body 5x4.4mm, Pitch 0.65mm, IPC High Density)
footprint RU-16_M (TSOP, 16-Leads, Body 5x4.4mm, Pitch 0.65mm, IPC Low Density)
pins: 1 IOUT1A (out) "DAC A Current Output.", 2 IOUT2A "DAC A Analog Ground. This pin should typically be tied to the analog ground of the system, but it can be biased to achieve single-supply operation.", 3 RFBA (in) "DAC Feedback Resistor Pin. This pin establishes voltage output for the DAC by connecting to an external amplifier output.", 4 VREFA (in) "DAC A Reference Voltage Input Pin.", 5 GND (power) "Ground Pin.", 6 ~{LDAC} (in) "Load DAC Input. This pin allows asynchronous or synchronous updates to the DAC output. The DAC is asynchronously updated when this signal goes low. Alternatively, if this line is held permanently low, an automatic or (See Datasheet)", 7 SCLK (in) "Serial Clock Input. By default, data is clocked into the input shift register on the falling edge of the serial clock input. Alternatively, by means of the serial control bits, the device can be configured such that data is (See Datasheet)", 8 SDIN (in) "Serial Data Input. Data is clocked into the 16-bit input register on the active edge of the serial clock input. By default, data is clocked at power-on into the shift register on the falling edge of SCLK. The control bits (See Datasheet)", 9 SDO (oc) "Serial Data Output. This pin allows a number of parts to be daisy-chained. By default, data is clocked into the shift register on the falling edge and clocked out via SDO on the rising edge of SCLK. Data is always clocked (See Datasheet)", 10 ~{SYNC} (in) "Active Low Control Input. This pin provides the frame synchronization signal for the input data. When S\Y\N\C\ goes low, it powers on the SCLK and DIN buffers, and the input shift register is enabled. Data is loaded into the (See Datasheet)", 11 ~{CLR} (in) "Active Low Control Input. This pin clears the DAC output, input, and DAC registers. Configuration mode allows the user to enable the hardware C\L\R\ pin as a clear-to-zero scale or midscale, as required.", 12 VDD (power) "Positive Power Supply Input. These parts can be operated from a supply of 2.5 V to 5.5 V.", 13 VREFB (in) "DAC B Reference Voltage Input Pin.", 14 RFBB (in) "DAC B Feedback Resistor Pin. This pin establishes voltage output for the DAC by connecting to an external amplifier output.", 15 IOUT2B "DAC B Analog Ground. This pin typically should be tied to the analog ground of the system, but it can be biased to achieve single-supply operation.", 16 IOUT1B (out) "DAC B Current Output."